# EAGLE library part DAC,10BIT,HIGH_SPEED,ADV7127 (library QuantumOptics)
DAC, 10-bit, 240MHz, Iouts, int ref, AnaDev ADV7127.
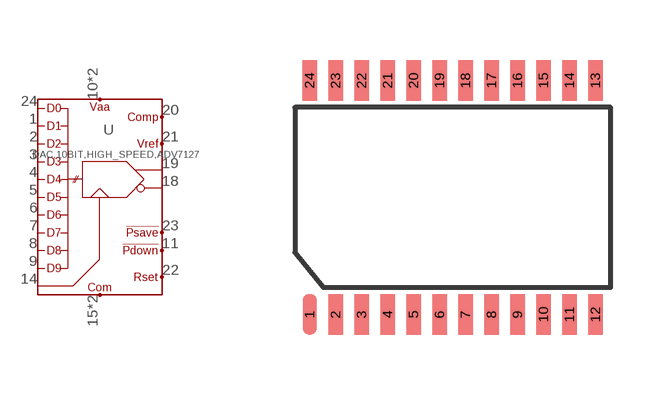
[diagram p219: symbol with the pads of TSSOP-24; footprint TSSOP-24]

Designator prefix U

## DAC,10BIT,HIGH_SPEED,ADV7127  [TSSOP-24]
1  D1  in
2  D2  in
3  D3  in
4  D4  in
5  D5  in
6  D6  in
7  D7  in
8  D8  in
9  D9  in
10  VAA
11  !PDOWN  in
14  CLK  in
15  COM
16  COM
17  VAA
18  !IOUT  out
19  IOUT  out
20  COMP  in
21  VREF  in
22  RSET  in
23  !PSAVE  in
24  D0  in

## Footprint TSSOP-24 (pad centres in mm)
TSSOP-24, pins 0.65mm c-c spacing, nominal 6.4mm pins max W.
smd 0.356 x 1.016: 1 -3.575,-2.925; 2 -2.925,-2.925; 3 -2.275,-2.925; 4 -1.625,-2.925; 5 -0.975,-2.925; 6 -0.325,-2.925; 7 0.325,-2.925; 8 0.975,-2.925; 9 1.625,-2.925; 10 2.275,-2.925; 11 2.925,-2.925; 12 3.575,-2.925; 13 3.575,2.925; 14 2.925,2.925; 15 2.275,2.925; 16 1.625,2.925; 17 0.975,2.925; 18 0.325,2.925; 19 -0.325,2.925; 20 -0.975,2.925; 21 -1.625,2.925; 22 -2.275,2.925; 23 -2.925,2.925; 24 -3.575,2.925